# Altium schematic symbol library Connectors - FFC FPC.SchLib: 2 symbols
Pins are listed as number, name and electrical type; pins without a type are passive.

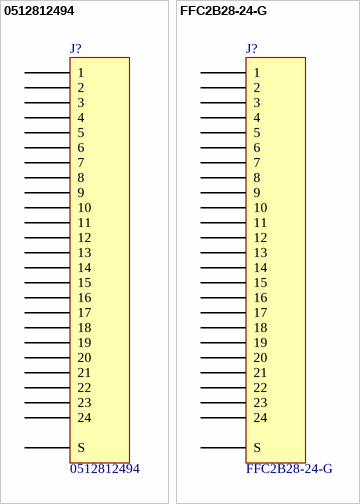
[diagram p0: symbols 0512812494 to FFC2B28-24-G]

## 0512812494
designator J?
CONN FFC FPC 24POS 0.50MM R/A; Manufacturer: Molex; Cable End Type: Straight, Tapered; Connector/Contact Type: Contacts, Top and Bottom; FFC, FCB Thickness: 0.30mm; Flat Flex Type: FFC, FPC; Material Flammability Rating: UL94 V-0; Number of Positions: 24; Pitch: 0.020" (0.50mm); Voltage Rating: 50V; Part Number: 0512812494; ComponentLink1Description: Datasheet; ComponentLink1URL: https://www.molex.com/pdm_docs/sd/512810794_sd.pdf; ComponentLink2Description: DigiKey Link; ComponentLink2URL: http://digikey.com/product-detail/en/molex/0512812494/WM6240CT-ND/2185198; Contact Finish: Gold; Contact Material: Phosphor Bronze; Features: Solder Retention; Height Above Board: 0.047" (1.20mm); Housing Material: Liquid Crystal Polymer (LCP), Glass Filled; LastUpdated: 5/26/2020 12:28:11 PM; Lifecycle Status: Active; Minimum Order: 1; Mounting Type: Surface Mount, Right Angle; Operating Temperature: -20°C ~ 85°C; Packaging: TapeAndReel; Part Status: Active; Price: 0.71; Series: 51281; Supplier 1: DigiKey; Supplier Part Number 1: WM6240CT-ND; Termination: Solder
footprint MOLEX 512812494
pins: 1, 2, 3, 4, 5, 6, 7, 8, 9, 10, 11, 12, 13, 14, 15, 16, 17, 18, 19, 20, 21, 22, 23, 24, S

## FFC2B28-24-G
designator J?
24W,0.5MM FFC CON,R/A,DUAL CONT,; Manufacturer: GCT; Actuator Material: Thermoplastic; Cable End Type: Tapered; Connector/Contact Type: Contacts, Top and Bottom; FFC, FCB Thickness: 0.30mm; Flat Flex Type: FFC, FPC; Locking Feature: Flip Lock, Backlock; Material Flammability Rating: UL94 V-0; Number of Positions: 24; Pitch: 0.020" (0.50mm); Voltage Rating: 30V; Part Number: FFC2B28-24-G; ComponentLink1Description: Datasheet; ComponentLink1URL: https://gct.co/files/drawings/ffc2b28.pdf; ComponentLink2Description: DigiKey Link; ComponentLink2URL: http://digikey.com/product-detail/en/gct/FFC2B28-24-G/2073-FFC2B28-24-GCT-ND/10656973; Contact Finish: Gold; Contact Material: Copper Alloy; Features: Solder Retention; Height Above Board: 0.039" (1.00mm); Housing Material: Thermoplastic; LastUpdated: 5/26/2020 12:29:33 PM; Lifecycle Status: Active; Minimum Order: 1; Mounting Type: Surface Mount, Right Angle; Operating Temperature: -25°C ~ 85°C; Packaging: Unknown; Part Status: Active; Price: 0.31; Series: FFC2B28; Supplier 1: DigiKey; Supplier Part Number 1: 2073-FFC2B28-24-GCT-ND; Termination: Solder
footprint GCT FFC2B28-24
pins: 1, 2, 3, 4, 5, 6, 7, 8, 9, 10, 11, 12, 13, 14, 15, 16, 17, 18, 19, 20, 21, 22, 23, 24, S